# Altium footprint library std-smt.PcbLib: 52 footprints (part 4 of 4)
Each footprint in its own frame and in the unit in brackets; x right, y up, seen from the top. Pads: shape width x height; smd on the part's side, far side on the other; paste and mask are expansions set on the pad; w line width, h text height; cw(c..) or ccw(c..) is an arc to the next point about the centre after c.
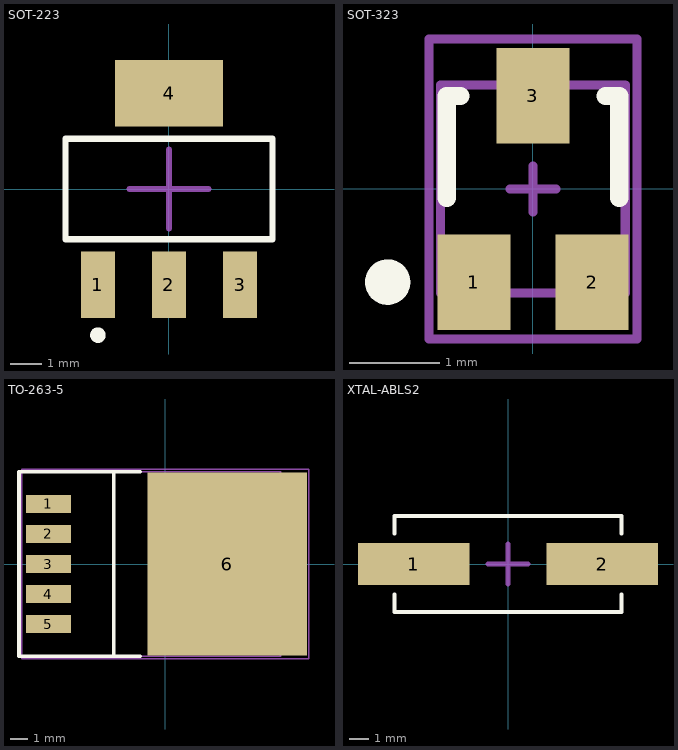
[diagram p3: the footprints below, top view; thin cyan lines are the x and y axes]

## SOT-223 [mm] "SOT-223/SC-73; 4 Leads; Body 6.7 x 7.3 mm, inc. leads (LxW max)"
height 1.8
pads (4):
  rect 1.1x2.15 smd: 1(-2.3,-3.1) 2(0,-3.1) 3(2.3,-3.1)
  rect 3.5x2.15 smd: 4(0,3.1)
Top Overlay:
  circle w0.25: c-2.3,-4.725 r0.125
  lines w0.2: -3.35,-1.625 3.35,-1.625 3.35,1.625 -3.35,1.625 -3.35,-1.625
Mechanical 15:
  lines w0.203: -1.27,0 1.27,0 ; 0,-1.27 0,1.27
3D body "SOT-223.step": height 1.86, standoff -0.04, extent -3.321,-3.674 3.379,3.53

## SOT-323 [mm] "SOT-323/SC-70; 3 Leads; Body 2.2 x 2.2 mm, inc. leads (LxW max)"
height 1
pads (3):
  rect 0.8x1.05 smd: 1(-0.65,-1.025) 2(0.65,-1.025) 3(0,1.025)
Top Overlay:
  circle w0.25: c-1.6,-1.025 r0.125
  lines w0.2: -0.95,-0.1 -0.95,1.025 -0.8,1.025 ; 0.8,1.025 0.95,1.025 0.95,-0.1
Mechanical 13:
  lines w0.1: -1.016,-1.143 -1.016,1.143 1.016,1.143 1.016,-1.143 -1.016,-1.143
Mechanical 15:
  lines w0.1: -0.254,0 0.254,0 ; 0,-0.254 0,0.254 ; -1.143,-1.651 -1.143,1.651 1.143,1.651 1.143,-1.651 -1.143,-1.651
3D body "SOT-323.step": height 1, standoff 0, extent -1.05,-1.15 1.05,1.15

## TO-263-5 [mil] "D2-PAK, 5-Leads, Body 9.3x10.2mm, Pitch 2.54mm, Lead Span 15.2mm, IPC High Density"
height 179.92
pads (6):
  rect 100x40 smd: 1(-260,133.86) 2(-260,66.93) 3(-260,0) 4(-260,-66.93) 5(-260,-133.86)
  rect 354.33x407.48 smd: 6(137.8,0)
Top Overlay:
  circle w9.84: c-246.06,140.35 r4.92
  lines w7.87: -55.12,-204.72 -114.17,-204.72 -114.17,204.72 -55.12,204.72
  lines w8: -114.17,-205 -325,-205 -325,204.72 -114.17,204.72
Mechanical 13:
  lines w3.94: -114.17,-204.72 -114.17,204.72 255.91,204.72 255.91,-204.72 -114.17,-204.72
Mechanical 15:
  lines w3.94: -19.68,0 19.69,0 ; 0,-19.68 0,19.68 ; -318.9,-210.63 -318.9,210.63 318.9,210.63 318.9,-210.63 -318.9,-210.63
3D body "SW3dPS-TO263-5.STEP": height 188.76, standoff -0.21, extent -306.45,-196.85 310.48,196.85

## XTAL-ABLS2 [mm] "Crystal, SMD, body 450 x 190 mil"
height 0.75
pads (2):
  rect 5.6x2.1 smd: 1(-4.75,0) 2(4.75,0)
Top Overlay:
  lines w0.203: -5.715,-1.524 -5.715,-2.413 5.715,-2.413 5.715,-1.524 ; -5.715,1.524 -5.715,2.413 5.715,2.413 5.715,1.524
Mechanical 15:
  lines w0.254: -1.016,0 1.016,0 ; 0,-1.016 0,1.016
3D body "User Library-SMU4.STEP": height 3.92, standoff -0.08, extent -6.259,-2.4 6.241,2.4